# EAGLE library part SIM7080G (library SIM7080G)
SIM7080G is Multi-Band CAT-M and NB-IoT module solution in a SMT type . Source: Datasheet <https://www.waveshare.com/w/upload/e/e7/SIM7080G_Hardware_Design_V1.03.pdf>
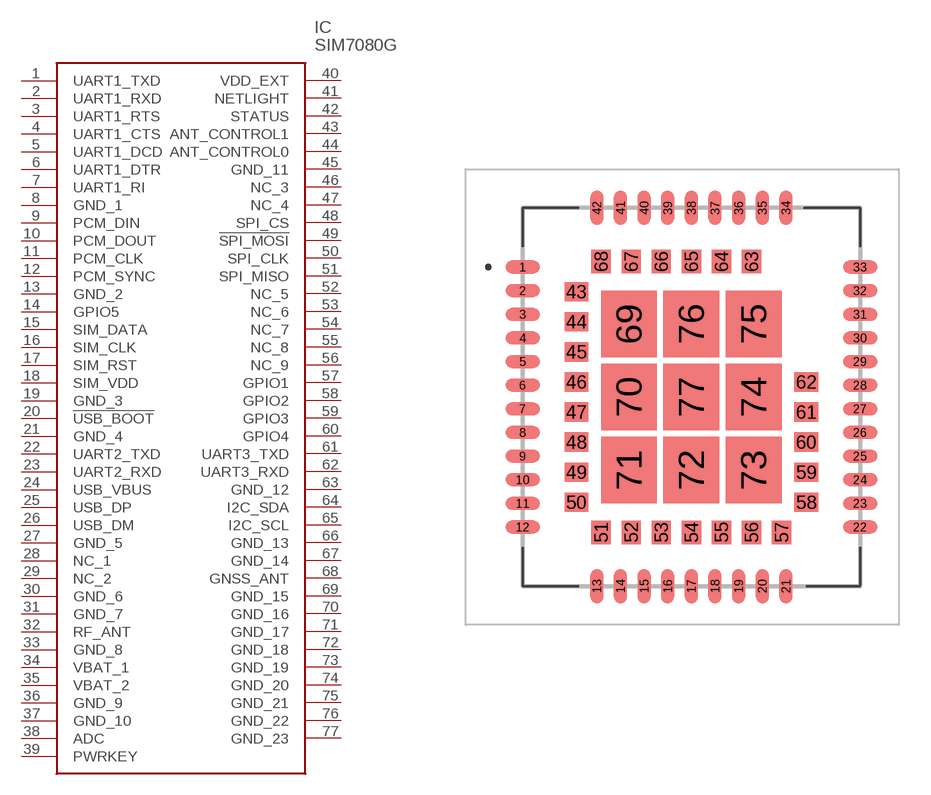
[diagram p0: symbol with the pads of SIM7080G; footprint SIM7080G]

Designator prefix IC

## SIM7080G (Description: SIM7080G is Multi-Band CAT-M and NB-IoT module solution in a SMT type .; Height: 2.6mm; Manufacturer_Name: SIMCOM; Manufacturer_Part_Number: SIM7080G)  [SIM7080G]
1  UART1_TXD
2  UART1_RXD
3  UART1_RTS
4  UART1_CTS
5  UART1_DCD
6  UART1_DTR
7  UART1_RI
8  GND_1
9  PCM_DIN
10  PCM_DOUT
11  PCM_CLK
12  PCM_SYNC
13  GND_2
14  GPIO5
15  SIM_DATA
16  SIM_CLK
17  SIM_RST
18  SIM_VDD
19  GND_3
20  !USB_BOOT
21  GND_4
22  UART2_TXD
23  UART2_RXD
24  USB_VBUS
25  USB_DP
26  USB_DM
27  GND_5
28  NC_1
29  NC_2
30  GND_6
31  GND_7
32  RF_ANT
33  GND_8
34  VBAT_1
35  VBAT_2
36  GND_9
37  GND_10
38  ADC
39  PWRKEY
40  VDD_EXT
41  NETLIGHT
42  STATUS
43  ANT_CONTROL1
44  ANT_CONTROL0
45  GND_11
46  NC_3
47  NC_4
48  SPI_CS
49  !SPI_MOSI
50  SPI_CLK
51  SPI_MISO
52  NC_5
53  NC_6
54  NC_7
55  NC_8
56  NC_9
57  GPIO1
58  GPIO2
59  GPIO3
60  GPIO4
61  UART3_TXD
62  UART3_RXD
63  GND_12
64  I2C_SDA
65  I2C_SCL
66  GND_13
67  GND_14
68  GNSS_ANT
69  GND_15
70  GND_16
71  GND_17
72  GND_18
73  GND_19
74  GND_20
75  GND_21
76  GND_22
77  GND_23

## Footprint SIM7080G (pad centres in mm)
SIM7080G-2
smd 1.6 x 0.6: 1 -7.85,6.05; 2 -7.85,4.95; 3 -7.85,3.85; 4 -7.85,2.75; 5 -7.85,1.65; 6 -7.85,0.55; 7 -7.85,-0.55; 8 -7.85,-1.65; 9 -7.85,-2.75; 10 -7.85,-3.85; 11 -7.85,-4.95; 12 -7.85,-6.05; 22 7.85,-6.05; 23 7.85,-4.95; 24 7.85,-3.85; 25 7.85,-2.75; 26 7.85,-1.65; 27 7.85,-0.55; 28 7.85,0.55; 29 7.85,1.65; 30 7.85,2.75; 31 7.85,3.85; 32 7.85,4.95; 33 7.85,6.05
smd 0.6 x 1.6: 13 -4.4,-8.8; 14 -3.3,-8.8; 15 -2.2,-8.8; 16 -1.1,-8.8; 17 0,-8.8; 18 1.1,-8.8; 19 2.2,-8.8; 20 3.3,-8.8; 21 4.4,-8.8; 34 4.4,8.8; 35 3.3,8.8; 36 2.2,8.8; 37 1.1,8.8; 38 0,8.8; 39 -1.1,8.8; 40 -2.2,8.8; 41 -3.3,8.8; 42 -4.4,8.8
smd 1.1 x 0.9: 43 -5.35,4.9; 44 -5.35,3.5; 45 -5.35,2.1; 46 -5.35,0.7; 47 -5.35,-0.7; 48 -5.35,-2.1; 49 -5.35,-3.5; 50 -5.35,-4.9; 58 5.35,-4.9; 59 5.35,-3.5; 60 5.35,-2.1; 61 5.35,-0.7; 62 5.35,0.7
smd 0.9 x 1.1: 51 -4.2,-6.3; 52 -2.8,-6.3; 53 -1.4,-6.3; 54 0,-6.3; 55 1.4,-6.3; 56 2.8,-6.3; 57 4.2,-6.3; 63 2.8,6.3; 64 1.4,6.3; 65 0,6.3; 66 -1.4,6.3; 67 -2.8,6.3; 68 -4.2,6.3
smd 2.6 x 3.1: 69 -2.9,3.4; 70 -2.9,0; 71 -2.9,-3.4; 72 0,-3.4; 73 2.9,-3.4; 74 2.9,0; 75 2.9,3.4; 76 0,3.4; 77 0,0